# Altium schematic symbol library AdafruitFeather.SchLib: 5 symbols
Pins are listed as number, name and electrical type; pins without a type are passive.

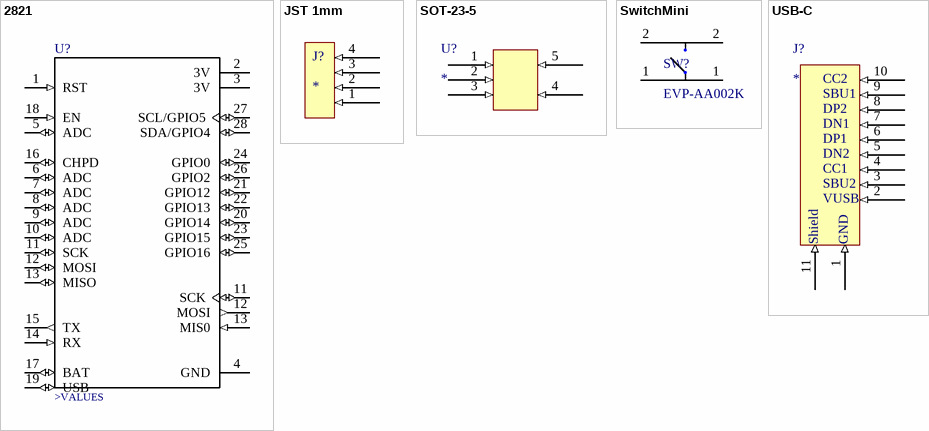
[diagram p0: symbols 2821 to USB-C]

## 2821
designator U?  (value not drawn)
Adafruit Feather HUZZAH with ESP8266 WiFi; MF: Adafruit Industries; MP: 2821; Price: None; Package: None; Availability: Unavailable; SnapEDA_Link: https://www.snapeda.com/parts/2821/Adafruit%20Industries%20LLC/view-part/?ref=snap; Value: *
footprint *XCVR_2821
pins: 1 RST (in), 2 3V (power), 3 3V (power), 4 GND (power), 5 ADC (io), 6 ADC (io), 7 ADC (io), 8 ADC (io), 9 ADC (io), 10 ADC (io), 11 SCK (io), 11 SCK (io), 12 MOSI (out), 12 MOSI (io), 13 MIS0 (in), 13 MISO (io), 14 RX (in), 15 TX (out), 16 CHPD (io), 17 BAT (io), 18 EN (in), 19 USB (io), 20 GPIO14 (io), 21 GPIO12 (io), 22 GPIO13 (io), 23 GPIO15 (io), 24 GPIO0 (io), 25 GPIO16 (io), 26 GPIO2 (io), 27 SCL/GPIO5 (io), 28 SDA/GPIO4 (io)
text: >VALUES

## JST 1mm
designator J?
footprint jst 1mm
pins: 1 (in), 2 (in), 3 (in), 4 (in)

## SOT-23-5
designator U?
footprint Sot23-5
pins: 1 (in), 2 (in), 3 (in), 4 (in), 5 (in)

## SwitchMini
designator SW?, comment EVP-AA002K
EVPAA002K = 1.0 N, EVPAAU02Q = 7.0 N
footprint MiniSwitch
pins: 1 18 (power), 1 18 (power), 2 18 (power), 2 18 (power)

## USB-C
designator J?
footprint TYPE-C-31-M-12
pins: 1 (in), 2 (in), 3 (in), 4 (in), 5 (in), 6 (in), 7 (in), 8 (in), 9 (in), 10 (in), 11 (in)
text: CC2; SBU1; DP2; DN1; DP1; DN2; CC1; SBU2; VUSB; Shield; GND